# EAGLE library part ADG508 (library ic)
ADG508: 8 channel analog multiplexer (Analog Devices) ±15V, 600Ω Ron, 400ns tswitch TTL level inputs
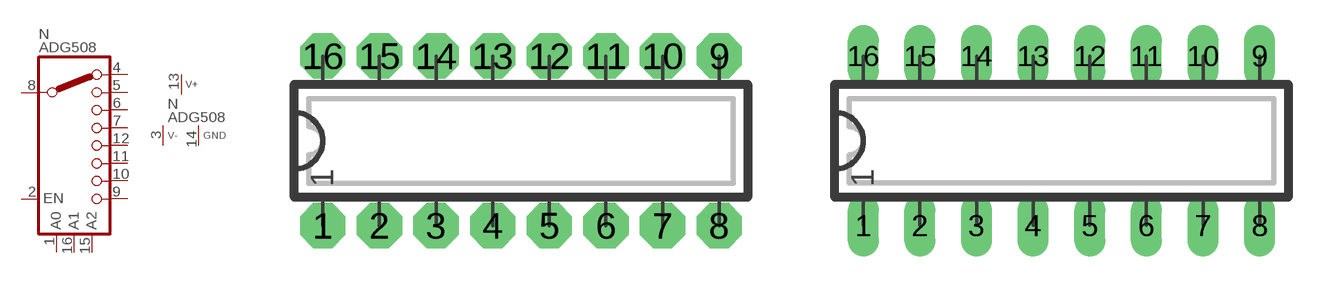
[diagram p8: symbol with the pads of DIP16N; footprints DIP16N, DIP16L]

Designator prefix N; gates P=V+-GND  =SD1X8

## ADG508N  [DIP16N]
1   :A0  in
2   :EN  in
3  P:V-  pwr
4   :S2A
5   :S2B
6   :S2C
7   :S2D
8   :S1
9   :S2H
10   :S2G
11   :S2F
12   :S2E
13  P:V+  pwr
14  P:GND  pwr
15   :A2  in
16   :A1  in

## ADG508  [DIP16L]
Pads as for DIP16N

## ADG508L  [DIP16L]
Pads as for DIP16N

## ADG508R  [DIP16R]
Pads as for DIP16N

## Footprint DIP16N (pad centres in mm)
DIP-16 Standard IC package, 16 pins
drill 0.813 pad 2.032 octagon: 1 -8.89,-3.81; 2 -6.35,-3.81; 3 -3.81,-3.81; 4 -1.27,-3.81; 5 1.27,-3.81; 6 3.81,-3.81; 7 6.35,-3.81; 8 8.89,-3.81; 9 8.89,3.81; 10 6.35,3.81; 11 3.81,3.81; 12 1.27,3.81; 13 -1.27,3.81; 14 -3.81,3.81; 15 -6.35,3.81; 16 -8.89,3.81

## Footprint DIP16L (pad centres in mm)
DIP-16, long pads Standard IC package, 16 pins
drill 0.813 pad 1.397 long: 1 -8.89,-3.81; 2 -6.35,-3.81; 3 -3.81,-3.81; 4 -1.27,-3.81; 5 1.27,-3.81; 6 3.81,-3.81; 7 6.35,-3.81; 8 8.89,-3.81; 9 8.89,3.81; 10 6.35,3.81; 11 3.81,3.81; 12 1.27,3.81; 13 -1.27,3.81; 14 -3.81,3.81; 15 -6.35,3.81; 16 -8.89,3.81

## Footprint DIP16R (pad centres in mm)
DIP-16, reduced pads Standard IC package, 16 pins
drill 0.813 pad 1.397 square: 1 -8.89,-3.81; 2 -6.35,-3.81; 3 -3.81,-3.81; 4 -1.27,-3.81; 5 1.27,-3.81; 6 3.81,-3.81; 7 6.35,-3.81; 8 8.89,-3.81; 9 8.89,3.81; 10 6.35,3.81; 11 3.81,3.81; 12 1.27,3.81; 13 -1.27,3.81; 14 -3.81,3.81; 15 -6.35,3.81; 16 -8.89,3.81